# EAGLE library part FSA551UCX (library SamacSys_Parts)
Last Shipments - Dual SPST Depletion Mode Audio Switch with Negative Swing Source: Datasheet <https://componentsearchengine.com/Datasheets/1/FSA551UCX.pdf>
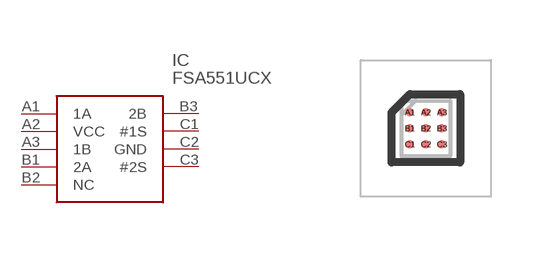
[diagram p26: symbol with the pads of BGA9C40P3X3_122X138X62; footprint BGA9C40P3X3_122X138X62]

Designator prefix IC

## FSA551UCX (DESCRIPTION: Last Shipments - Dual SPST Depletion Mode Audio Switch with Negative Swing; HEIGHT: 0.619mm; MANUFACTURER_NAME: onsemi; MANUFACTURER_PART_NUMBER: FSA551UCX; MOUSER_PART_NUMBER: 512-FSA551UCX; MOUSER_PRICE-STOCK: https://www.mouser.com/Search/Refine.aspx?Keyword=512-FSA551UCX)  [BGA9C40P3X3_122X138X62]
A1  1A
A2  VCC
A3  1B
B1  2A
B2  NC  nc
B3  2B
C1  #1S
C2  GND
C3  #2S

## Footprint BGA9C40P3X3_122X138X62 (pad centres in mm)
FSA551UCX
smd 0.208 x 0.208: A1 -0.4,0.4; A2 0,0.4; A3 0.4,0.4; B1 -0.4,0; B2 0,0; B3 0.4,0; C1 -0.4,-0.4; C2 0,-0.4; C3 0.4,-0.4